# Altium footprint library EasyARM-i.MX283-EV V1.01.PcbLib: 48 footprints (part 2 of 3)
Each footprint in its own frame and in the unit in brackets; x right, y up, seen from the top. Pads: shape width x height; smd on the part's side, far side on the other; paste and mask are expansions set on the pad; w line width, h text height; cw(c..) or ccw(c..) is an arc to the next point about the centre after c.
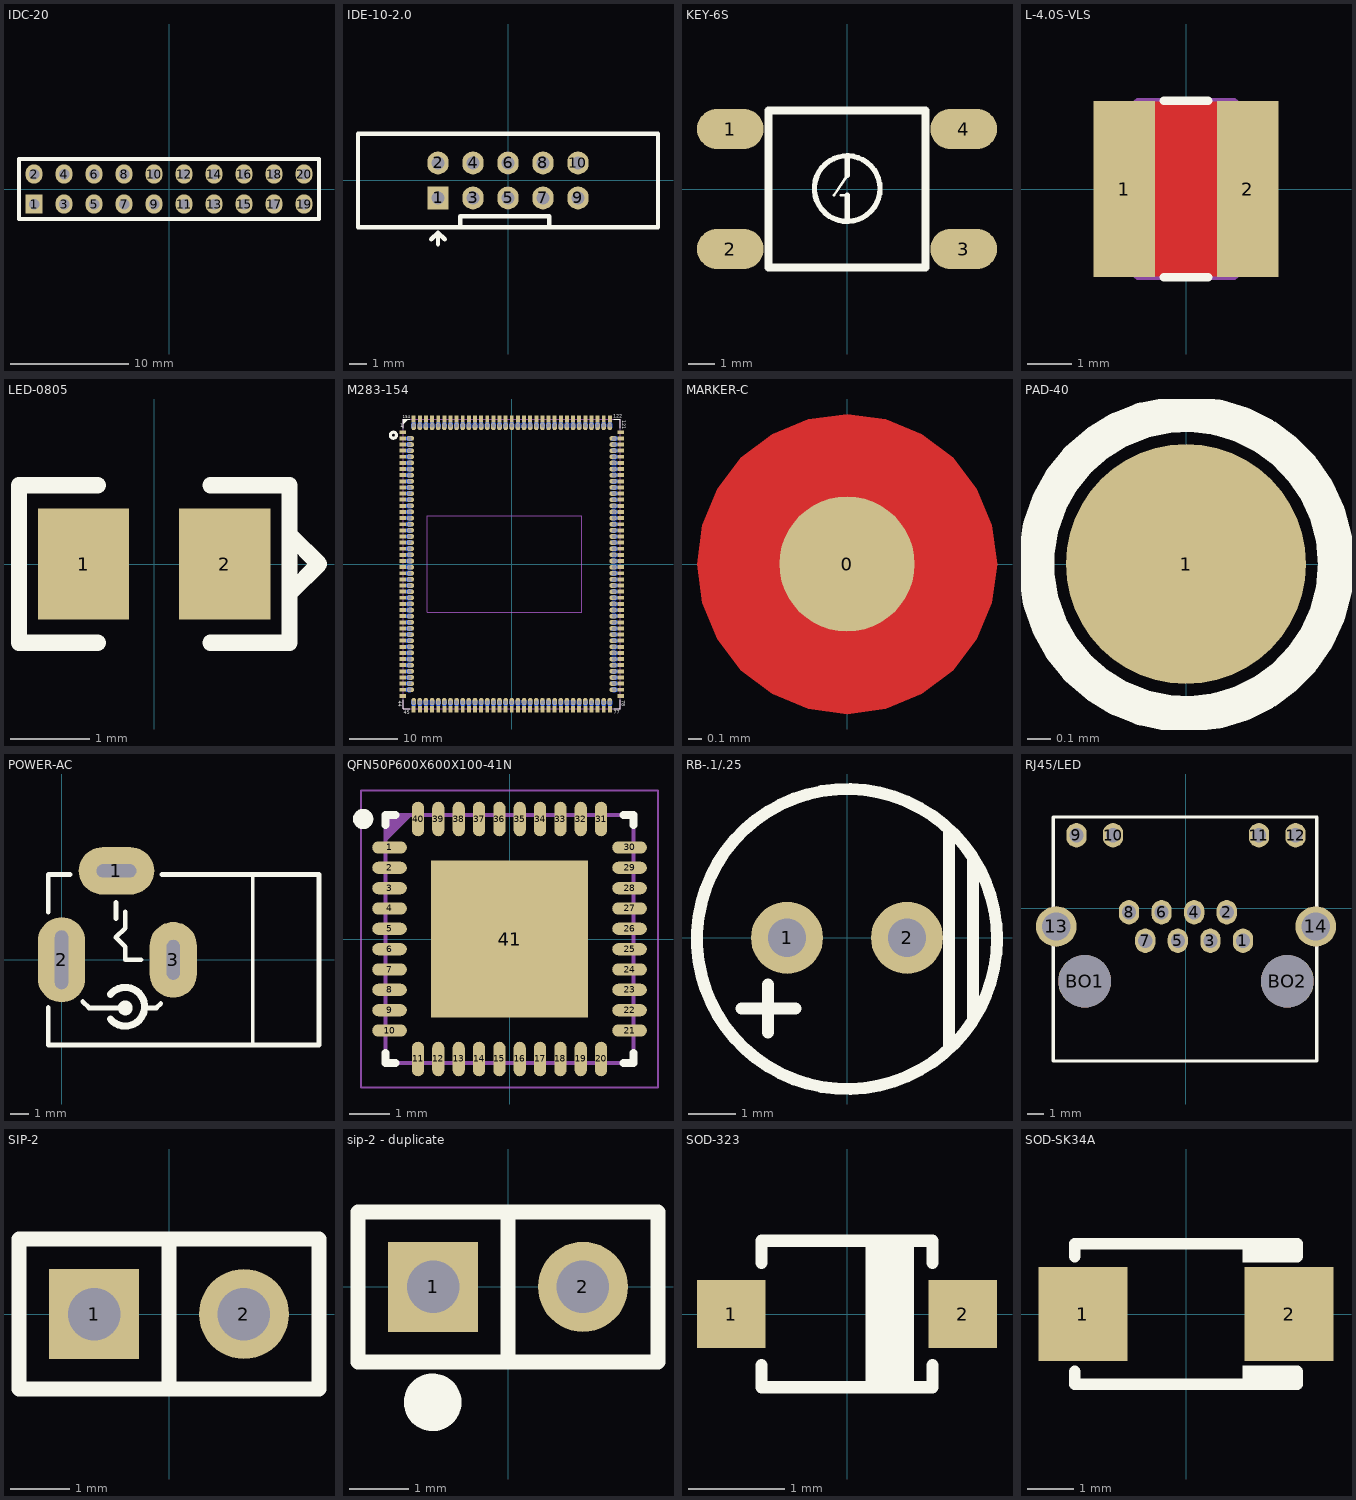
[diagram p1: the footprints below, top view; thin cyan lines are the x and y axes]

## IDC-20 [mil]
pads (20):
  rect 56x65 hole 35: 1(-450,-50)
  oval 56x65 hole 35: 2(-450,50) 3(-350,-50) 4(-350,50) 5(-250,-50) 6(-250,50) 7(-150,-50) 8(-150,50) 9(-50,-50) 10(-50,50) 11(50,-50) 12(50,50) 13(150,-50) 14(150,50) 15(250,-50) 16(250,50) 17(350,-50) 18(350,50) 19(450,-50) 20(450,50)
Top Overlay:
  lines w12: -500,-100 500,-100 500,100 -500,100 -500,-100
3D body: height 393.7, standoff 0, extent -469.24,30.04 -429.87,69.41
3D body: height 393.7, standoff 0, extent -369.24,30.04 -329.87,69.41
3D body: height 393.7, standoff 0, extent -269.24,30.04 -229.87,69.41
3D body: height 393.7, standoff 0, extent -169.24,30.04 -129.87,69.41
3D body: height 393.7, standoff 0, extent -69.24,30.04 -29.87,69.41
3D body: height 393.7, standoff 0, extent 30.76,30.04 70.13,69.41
3D body: height 393.7, standoff 0, extent 130.76,30.04 170.13,69.41
3D body: height 393.7, standoff 0, extent 230.76,30.04 270.13,69.41
3D body: height 393.7, standoff 0, extent 330.76,30.04 370.13,69.41
3D body: height 393.7, standoff 0, extent 430.76,30.04 470.13,69.41
3D body: height 393.7, standoff 0, extent 430.76,-69.96 470.13,-30.59
3D body: height 393.7, standoff 0, extent 330.76,-69.96 370.13,-30.59
3D body: height 393.7, standoff 0, extent 230.76,-69.96 270.13,-30.59
3D body: height 393.7, standoff 0, extent 130.76,-69.96 170.13,-30.59
3D body: height 393.7, standoff 0, extent 30.76,-69.96 70.13,-30.59
3D body: height 393.7, standoff 0, extent -69.24,-69.96 -29.87,-30.59
3D body: height 393.7, standoff 0, extent -169.24,-69.96 -129.87,-30.59
3D body: height 393.7, standoff 0, extent -269.24,-69.96 -229.87,-30.59
3D body: height 393.7, standoff 0, extent -369.24,-69.96 -329.87,-30.59
3D body: height 393.7, standoff 0, extent -469.24,-69.96 -429.87,-30.59
3D body: height 298.43, standoff -115.75, extent -400,-100 -300,0
3D body: height 298.43, standoff -115.75, extent -500,-100 -400,0
3D body: height 298.43, standoff -115.75, extent -400,0 -300,100
3D body: height 298.43, standoff -115.75, extent -500,0 -400,100
3D body: height 298.43, standoff -115.75, extent -200,-100 -100,0
3D body: height 298.43, standoff -115.75, extent -300,-100 -200,0
3D body: height 298.43, standoff -115.75, extent -200,0 -100,100
3D body: height 298.43, standoff -115.75, extent -300,0 -200,100
3D body: height 298.43, standoff -115.75, extent 0,-100 100,0
3D body: height 298.43, standoff -115.75, extent -100,-100 0,0
3D body: height 298.43, standoff -115.75, extent 0,0 100,100
3D body: height 298.43, standoff -115.75, extent -100,0 0,100
3D body: height 298.43, standoff -115.75, extent 200,-100 300,0
3D body: height 298.43, standoff -115.75, extent 100,-100 200,0
3D body: height 298.43, standoff -115.75, extent 200,0 300,100
3D body: height 298.43, standoff -115.75, extent 100,0 200,100
3D body: height 298.43, standoff -115.75, extent 400,-100 500,0
3D body: height 298.43, standoff -115.75, extent 300,-100 400,0
3D body: height 298.43, standoff -115.75, extent 400,0 500,100
3D body: height 298.43, standoff -115.75, extent 300,0 400,100

## IDE-10-2.0 [mil]
pads (10):
  rect 48x52 hole 30: 1(-157.48,-39.37)
  oval 48x52 hole 30: 2(-157.48,39.37) 3(-78.74,-39.37) 4(-78.74,39.37) 5(0,-39.37) 6(0,39.37) 7(78.74,-39.37) 8(78.74,39.37) 9(157.48,-39.37) 10(157.48,39.37)
Top Overlay:
  lines w10: -172.48,-132.37 -157.48,-117.37 ; -157.48,-143.37 -157.48,-117.37 ; -142.48,-132.37 -157.48,-117.37 ; -107.48,-105 -107.48,-80 92.52,-80 92.52,-105 ; -337.48,-105 -337.48,105 337.48,105 337.48,-105 -337.48,-105

## KEY-6S [mil]
pads (4):
  oval 100x60 smd: 1(-175,90) 2(-175,-90) 3(175,-90) 4(175,90)
Top Overlay:
  circle w8: c0.27,0.61 r49.21
  lines w4: -19.42,-9.24 0.27,20.29 ; -9.57,-9.24 0.27,-9.24
  lines w8: 0.27,-48.61 0.27,-9.23 ; 0.27,20.29 0.27,49.82
  lines w12: -118.11,-118.11 118.11,-118.11 118.11,118.11 -118.11,118.11 -118.11,-118.11
3D body: height 267.87, standoff 2.13, extent -200.64,-122.05 200.65,122.05

## L-4.0S-VLS [mm]
pads (2):
  rect 1.4x4 smd: 1(-1.4,0) 2(1.4,0)
Top Layer:
  pour cut-out: 0.737,-1.981 0.737,1.981 -0.762,1.981 -0.762,-1.981
Top Overlay:
  lines w0.203: -0.5,-2 0.5,-2 ; -0.5,2 0.5,2
Mechanical 15:
  lines w0.127: -2,-1.289 -2,1.289 ; -1.997,-1.292 -1.092,-2 1.092,-2 1.997,-1.292 ; -1.997,1.292 -1.092,2 1.092,2 1.997,1.292 ; 2,-1.292 2,1.289
3D body: height 1.2, standoff 0, extent -2,-2 2,2

## LED-0805 [mm]
pads (2):
  rect 1.15x1.4 smd: 1(-0.889,0) 2(0.889,0)
Top Overlay:
  lines w0.203: -0.711,-0.991 -1.702,-0.991 -1.702,0.991 -0.711,0.991 ; 0.711,-0.991 1.702,-0.991 1.702,0.991 0.711,0.991 ; 1.719,-0.356 2.075,0 1.719,0.356
3D body: height 1.1, standoff 0, extent -0.508,-0.508 0.508,0.508
3D body: height 0.64, standoff 0, extent -1,-0.635 1,0.635

## M283-154 [mm]
pads (604):
  rect 1.384x0.813 smd mask+0.051: 1(-22.57,27.305) 2(-22.57,26.035) 3(-22.57,24.765) 4(-22.57,23.495) 5(-22.57,22.225) 6(-22.57,20.955) 7(-22.57,19.685) 8(-22.57,18.415) 9(-22.57,17.145) 10(-22.57,15.875) 11(-22.57,14.605) 12(-22.57,13.335) 13(-22.57,12.065) 14(-22.57,10.795) 15(-22.57,9.525) 16(-22.57,8.255) 17(-22.57,6.985) 18(-22.57,5.715) 19(-22.57,4.445) 20(-22.57,3.175) 21(-22.57,1.905) 22(-22.57,0.635) 23(-22.57,-0.635) 24(-22.57,-1.905) 25(-22.57,-3.175) 26(-22.57,-4.445) 27(-22.57,-5.715) 28(-22.57,-6.985) 29(-22.57,-8.255) 30(-22.57,-9.525) 31(-22.57,-10.795) 32(-22.57,-12.065) 33(-22.57,-13.335) 34(-22.57,-14.605) 35(-22.57,-15.875) 36(-22.57,-17.145) 37(-22.57,-18.415) 38(-22.57,-19.685) 39(-22.57,-20.955) 40(-22.57,-22.225) 41(-22.57,-23.495) 42(-22.57,-24.765) 43(-22.57,-26.035) 44(-22.57,-27.305) 78(22.57,-27.305) 79(22.57,-26.035) 80(22.57,-24.765) 81(22.57,-23.495) 82(22.57,-22.225) 83(22.57,-20.955) 84(22.57,-19.685) 85(22.57,-18.415) 86(22.57,-17.145) 87(22.57,-15.875) 88(22.57,-14.605) 89(22.57,-13.335) 90(22.57,-12.065) 91(22.57,-10.795) 92(22.57,-9.525) 93(22.57,-8.255) 94(22.57,-6.985) 95(22.57,-5.715) 96(22.57,-4.445) 97(22.57,-3.175) 98(22.57,-1.905) 99(22.57,-0.635) 100(22.57,0.635) 101(22.57,1.905) 102(22.57,3.175) 103(22.57,4.445) 104(22.57,5.715) 105(22.57,6.985) 106(22.57,8.255) 107(22.57,9.525) 108(22.57,10.795) 109(22.57,12.065) 110(22.57,13.335) 111(22.57,14.605) 112(22.57,15.875) 113(22.57,17.145) 114(22.57,18.415) 115(22.57,19.685) 116(22.57,20.955) 117(22.57,22.225) 118(22.57,23.495) 119(22.57,24.765) 120(22.57,26.035) 121(22.57,27.305)
  oval 1x0.94 hole 0.8 mask+0.051: 2(-21.179,26.035) 3(-21.179,24.765) 4(-21.179,23.495) 5(-21.179,22.225) 6(-21.179,20.955) 7(-21.179,19.685) 8(-21.179,18.415) 9(-21.179,17.145) 10(-21.179,15.875) 11(-21.179,14.605) 12(-21.179,13.335) 13(-21.179,12.065) 14(-21.179,10.795) 15(-21.179,9.525) 16(-21.179,8.255) 17(-21.179,6.985) 18(-21.179,5.715) 19(-21.179,4.445) 20(-21.179,3.175) 21(-21.179,1.905) 22(-21.179,0.635) 23(-21.179,-0.635) 24(-21.179,-1.905) 25(-21.179,-3.175) 26(-21.179,-4.445) 27(-21.179,-5.715) 28(-21.179,-6.985) 29(-21.179,-8.255) 30(-21.179,-9.525) 31(-21.179,-10.795) 32(-21.179,-12.065) 33(-21.179,-13.335) 34(-21.179,-14.605) 35(-21.179,-15.875) 36(-21.179,-17.145) 37(-21.179,-18.415) 38(-21.179,-19.685) 39(-21.179,-20.955) 40(-21.179,-22.225) 41(-21.179,-23.495) 42(-21.179,-24.765) 43(-21.179,-26.035) 79(21.179,-26.035) 80(21.179,-24.765) 81(21.179,-23.495) 82(21.179,-22.225) 83(21.179,-20.955) 84(21.179,-19.685) 85(21.179,-18.415) 86(21.179,-17.145) 87(21.179,-15.875) 88(21.179,-14.605) 89(21.179,-13.335) 90(21.179,-12.065) 91(21.179,-10.795) 92(21.179,-9.525) 93(21.179,-8.255) 94(21.179,-6.985) 95(21.179,-5.715) 96(21.179,-4.445) 97(21.179,-3.175) 98(21.179,-1.905) 99(21.179,-0.635) 100(21.179,0.635) 101(21.179,1.905) 102(21.179,3.175) 103(21.179,4.445) 104(21.179,5.715) 105(21.179,6.985) 106(21.179,8.255) 107(21.179,9.525) 108(21.179,10.795) 109(21.179,12.065) 110(21.179,13.335) 111(21.179,14.605) 112(21.179,15.875) 113(21.179,17.145) 114(21.179,18.415) 115(21.179,19.685) 116(21.179,20.955) 117(21.179,22.225) 118(21.179,23.495) 119(21.179,24.765) 120(21.179,26.035)
  oval 1.5x0.95 smd far side mask+0.051: 2(-21.179,26.035) 3(-21.179,24.765) 4(-21.179,23.495) 5(-21.179,22.225) 6(-21.179,20.955) 7(-21.179,19.685) 8(-21.179,18.415) 9(-21.179,17.145) 10(-21.179,15.875) 11(-21.179,14.605) 12(-21.179,13.335) 13(-21.179,12.065) 14(-21.179,10.795) 15(-21.179,9.525) 16(-21.179,8.255) 17(-21.179,6.985) 18(-21.179,5.715) 19(-21.179,4.445) 20(-21.179,3.175) 21(-21.179,1.905) 22(-21.179,0.635) 23(-21.179,-0.635) 24(-21.179,-1.905) 25(-21.179,-3.175) 26(-21.179,-4.445) 27(-21.179,-5.715) 28(-21.179,-6.985) 29(-21.179,-8.255) 30(-21.179,-9.525) 31(-21.179,-10.795) 32(-21.179,-12.065) 33(-21.179,-13.335) 34(-21.179,-14.605) 35(-21.179,-15.875) 36(-21.179,-17.145) 37(-21.179,-18.415) 38(-21.179,-19.685) 39(-21.179,-20.955) 40(-21.179,-22.225) 41(-21.179,-23.495) 42(-21.179,-24.765) 43(-21.179,-26.035) 79(21.179,-26.035) 80(21.179,-24.765) 81(21.179,-23.495) 82(21.179,-22.225) 83(21.179,-20.955) 84(21.179,-19.685) 85(21.179,-18.415) 86(21.179,-17.145) 87(21.179,-15.875) 88(21.179,-14.605) 89(21.179,-13.335) 90(21.179,-12.065) 91(21.179,-10.795) 92(21.179,-9.525) 93(21.179,-8.255) 94(21.179,-6.985) 95(21.179,-5.715) 96(21.179,-4.445) 97(21.179,-3.175) 98(21.179,-1.905) 99(21.179,-0.635) 100(21.179,0.635) 101(21.179,1.905) 102(21.179,3.175) 103(21.179,4.445) 104(21.179,5.715) 105(21.179,6.985) 106(21.179,8.255) 107(21.179,9.525) 108(21.179,10.795) 109(21.179,12.065) 110(21.179,13.335) 111(21.179,14.605) 112(21.179,15.875) 113(21.179,17.145) 114(21.179,18.415) 115(21.179,19.685) 116(21.179,20.955) 117(21.179,22.225) 118(21.179,23.495) 119(21.179,24.765) 120(21.179,26.035)
  oval 1.5x0.95 smd mask+0.051: 2(-20.976,26.035) 3(-20.976,24.765) 4(-20.976,23.495) 5(-20.976,22.225) 6(-20.976,20.955) 7(-20.976,19.685) 8(-20.976,18.415) 9(-20.976,17.145) 10(-20.976,15.875) 11(-20.976,14.605) 12(-20.976,13.335) 13(-20.976,12.065) 14(-20.976,10.795) 15(-20.976,9.525) 16(-20.976,8.255) 17(-20.976,6.985) 18(-20.976,5.715) 19(-20.976,4.445) 20(-20.976,3.175) 21(-20.976,1.905) 22(-20.976,0.635) 23(-20.976,-0.635) 24(-20.976,-1.905) 25(-20.976,-3.175) 26(-20.976,-4.445) 27(-20.976,-5.715) 28(-20.976,-6.985) 29(-20.976,-8.255) 30(-20.976,-9.525) 31(-20.976,-10.795) 32(-20.976,-12.065) 33(-20.976,-13.335) 34(-20.976,-14.605) 35(-20.976,-15.875) 36(-20.976,-17.145) 37(-20.976,-18.415) 38(-20.976,-19.685) 39(-20.976,-20.955) 40(-20.976,-22.225) 41(-20.976,-23.495) 42(-20.976,-24.765) 43(-20.976,-26.035) 79(20.976,-26.035) 80(20.976,-24.765) 81(20.976,-23.495) 82(20.976,-22.225) 83(20.976,-20.955) 84(20.976,-19.685) 85(20.976,-18.415) 86(20.976,-17.145) 87(20.976,-15.875) 88(20.976,-14.605) 89(20.976,-13.335) 90(20.976,-12.065) 91(20.976,-10.795) 92(20.976,-9.525) 93(20.976,-8.255) 94(20.976,-6.985) 95(20.976,-5.715) 96(20.976,-4.445) 97(20.976,-3.175) 98(20.976,-1.905) 99(20.976,-0.635) 100(20.976,0.635) 101(20.976,1.905) 102(20.976,3.175) 103(20.976,4.445) 104(20.976,5.715) 105(20.976,6.985) 106(20.976,8.255) 107(20.976,9.525) 108(20.976,10.795) 109(20.976,12.065) 110(20.976,13.335) 111(20.976,14.605) 112(20.976,15.875) 113(20.976,17.145) 114(20.976,18.415) 115(20.976,19.685) 116(20.976,20.955) 117(20.976,22.225) 118(20.976,23.495) 119(20.976,24.765) 120(20.976,26.035)
  rect 0.813x1.384 smd mask+0.051: 45(-20.32,-30.07) 46(-19.05,-30.07) 47(-17.78,-30.07) 48(-16.51,-30.07) 49(-15.24,-30.07) 50(-13.97,-30.07) 51(-12.7,-30.07) 52(-11.43,-30.07) 53(-10.16,-30.07) 54(-8.89,-30.07) 55(-7.62,-30.07) 56(-6.35,-30.07) 57(-5.08,-30.07) 58(-3.81,-30.07) 59(-2.54,-30.07) 60(-1.27,-30.07) 61(0,-30.07) 62(1.27,-30.07) 63(2.54,-30.07) 64(3.81,-30.07) 65(5.08,-30.07) 66(6.35,-30.07) 67(7.62,-30.07) 68(8.89,-30.07) 69(10.16,-30.07) 70(11.43,-30.07) 71(12.7,-30.07) 72(13.97,-30.07) 73(15.24,-30.07) 74(16.51,-30.07) 75(17.78,-30.07) 76(19.05,-30.07) 77(20.32,-30.07) 122(20.32,30.07) 123(19.05,30.07) 124(17.78,30.07) 125(16.51,30.07) 126(15.24,30.07) 127(13.97,30.07) 128(12.7,30.07) 129(11.43,30.07) 130(10.16,30.07) 131(8.89,30.07) 132(7.62,30.07) 133(6.35,30.07) 134(5.08,30.07) 135(3.81,30.07) 136(2.54,30.07) 137(1.27,30.07) 138(0,30.07) 139(-1.27,30.07) 140(-2.54,30.07) 141(-3.81,30.07) 142(-5.08,30.07) 143(-6.35,30.07) 144(-7.62,30.07) 145(-8.89,30.07) 146(-10.16,30.07) 147(-11.43,30.07) 148(-12.7,30.07) 149(-13.97,30.07) 150(-15.24,30.07) 151(-16.51,30.07) 152(-17.78,30.07) 153(-19.05,30.07) 154(-20.32,30.07)
  oval 0.95x1 hole 0.8 mask+0.051: 45(-20.32,-28.679)
  oval 0.95x1.5 smd far side mask+0.051: 45(-20.32,-28.679) 46(-19.05,-28.679) 47(-17.78,-28.679) 48(-16.51,-28.679) 49(-15.24,-28.679) 50(-13.97,-28.679) 51(-12.7,-28.679) 52(-11.43,-28.679) 53(-10.16,-28.679) 54(-8.89,-28.679) 55(-7.62,-28.679) 56(-6.35,-28.679) 57(-5.08,-28.679) 58(-3.81,-28.679) 59(-2.54,-28.679) 60(-1.27,-28.679) 61(0,-28.679) 62(1.27,-28.679) 63(2.54,-28.679) 64(3.81,-28.679) 65(5.08,-28.679) 66(6.35,-28.679) 67(7.62,-28.679) 68(8.89,-28.679) 69(10.16,-28.679) 70(11.43,-28.679) 71(12.7,-28.679) 72(13.97,-28.679) 73(15.24,-28.679) 74(16.51,-28.679) 75(17.78,-28.679) 76(19.05,-28.679) 77(20.32,-28.679) 122(20.32,28.679) 123(19.05,28.679) 124(17.78,28.679) 125(16.51,28.679) 126(15.24,28.679) 127(13.97,28.679) 128(12.7,28.679) 129(11.43,28.679) 130(10.16,28.679) 131(8.89,28.679) 132(7.62,28.679) 133(6.35,28.679) 134(5.08,28.679) 135(3.81,28.679) 136(2.54,28.679) 137(1.27,28.679) 138(0,28.679) 139(-1.27,28.679) 140(-2.54,28.679) 141(-3.81,28.679) 142(-5.08,28.679) 143(-6.35,28.679) 144(-7.62,28.679) 145(-8.89,28.679) 146(-10.16,28.679) 147(-11.43,28.679) 148(-12.7,28.679) 149(-13.97,28.679) 150(-15.24,28.679) 151(-16.51,28.679) 152(-17.78,28.679) 153(-19.05,28.679) 154(-20.32,28.679)
  oval 0.95x1.5 smd mask+0.051: 45(-20.32,-28.476) 46(-19.05,-28.476) 47(-17.78,-28.476) 48(-16.51,-28.476) 49(-15.24,-28.476) 50(-13.97,-28.476) 51(-12.7,-28.476) 52(-11.43,-28.476) 53(-10.16,-28.476) 54(-8.89,-28.476) 55(-7.62,-28.476) 56(-6.35,-28.476) 57(-5.08,-28.476) 58(-3.81,-28.476) 59(-2.54,-28.476) 60(-1.27,-28.476) 61(0,-28.476) 62(1.27,-28.476) 63(2.54,-28.476) 64(3.81,-28.476) 65(5.08,-28.476) 66(6.35,-28.476) 67(7.62,-28.476) 68(8.89,-28.476) 69(10.16,-28.476) 70(11.43,-28.476) 71(12.7,-28.476) 72(13.97,-28.476) 73(15.24,-28.476) 74(16.51,-28.476) 75(17.78,-28.476) 76(19.05,-28.476) 77(20.32,-28.476) 122(20.32,28.476) 123(19.05,28.476) 124(17.78,28.476) 125(16.51,28.476) 126(15.24,28.476) 127(13.97,28.476) 128(12.7,28.476) 129(11.43,28.476) 130(10.16,28.476) 131(8.89,28.476) 132(7.62,28.476) 133(6.35,28.476) 134(5.08,28.476) 135(3.81,28.476) 136(2.54,28.476) 137(1.27,28.476) 138(0,28.476) 139(-1.27,28.476) 140(-2.54,28.476) 141(-3.81,28.476) 142(-5.08,28.476) 143(-6.35,28.476) 144(-7.62,28.476) 145(-8.89,28.476) 146(-10.16,28.476) 147(-11.43,28.476) 148(-12.7,28.476) 149(-13.97,28.476) 150(-15.24,28.476) 151(-16.51,28.476) 152(-17.78,28.476) 153(-19.05,28.476) 154(-20.32,28.476)
  oval 0.94x1 hole 0.8 mask+0.051: 46(-19.05,-28.679) 47(-17.78,-28.679) 48(-16.51,-28.679) 49(-15.24,-28.679) 50(-13.97,-28.679) 51(-12.7,-28.679) 52(-11.43,-28.679) 53(-10.16,-28.679) 54(-8.89,-28.679) 55(-7.62,-28.679) 56(-6.35,-28.679) 57(-5.08,-28.679) 58(-3.81,-28.679) 59(-2.54,-28.679) 60(-1.27,-28.679) 61(0,-28.679) 62(1.27,-28.679) 63(2.54,-28.679) 64(3.81,-28.679) 65(5.08,-28.679) 66(6.35,-28.679) 67(7.62,-28.679) 68(8.89,-28.679) 69(10.16,-28.679) 70(11.43,-28.679) 71(12.7,-28.679) 72(13.97,-28.679) 73(15.24,-28.679) 74(16.51,-28.679) 75(17.78,-28.679) 76(19.05,-28.679) 77(20.32,-28.679) 122(20.32,28.679) 123(19.05,28.679) 124(17.78,28.679) 125(16.51,28.679) 126(15.24,28.679) 127(13.97,28.679) 128(12.7,28.679) 129(11.43,28.679) 130(10.16,28.679) 131(8.89,28.679) 132(7.62,28.679) 133(6.35,28.679) 134(5.08,28.679) 135(3.81,28.679) 136(2.54,28.679) 137(1.27,28.679) 138(0,28.679) 139(-1.27,28.679) 140(-2.54,28.679) 141(-3.81,28.679) 142(-5.08,28.679) 143(-6.35,28.679) 144(-7.62,28.679) 145(-8.89,28.679) 146(-10.16,28.679) 147(-11.43,28.679) 148(-12.7,28.679) 149(-13.97,28.679) 150(-15.24,28.679) 151(-16.51,28.679) 152(-17.78,28.679) 153(-19.05,28.679) 154(-20.32,28.679)
Top Overlay:
  circle w0.635: c-24.532,26.695 r0.635
  region: -22.5,30 -21.488,30 -22.5,28.988
  lines w0.127: -22.5,-28.092 -22.5,-30 -21.107,-30 ; -22.5,28.092 -22.5,30 -21.107,30 ; 21.107,-30 22.5,-30 22.5,-28.092 ; 21.107,30 22.5,30 22.5,28.092
  text "154" at -22.581,30.251 h0.64
  text "1" at -23.089,28.321 h0.76
  text "122" at 21.006,30.328 h0.76
  text "121" at 22.84,29.744 h0.76
  text "78" at 22.824,-28.246 h0.76
  text "77" at 21.082,-30.988 h0.76
  text "45" at -22.428,-31.064 h0.76
  text "44" at -23.489,-28.292 h0.76
Mechanical 1:
  lines w0.127: -17.5,-10 14.5,-10 14.5,10 -17.5,10 -17.5,-10
Mechanical 2:
  lines w0.127: -17.5,-10 -17.5,10 14.5,10 14.5,-10 -17.5,-10
Mechanical 15:
  lines w0.127: -22.5,-30 -22.5,30 22.5,30 22.5,-30 -22.5,-30

## MARKER-C [mm]
pads (1):
  round 1 smd paste-1.016 mask+0.5: 0(0,0)
Top Layer:
  pour cut-out: -1.109,0 -1.072,-0.287 -0.961,-0.555 -0.785,-0.785 -0.555,-0.961 -0.287,-1.072 0,-1.109 0.287,-1.072 0.555,-0.961 0.785,-0.785 0.961,-0.555 1.072,-0.287 1.109,0 1.072,0.287 0.961,0.555 0.785,0.785 0.555,0.961 0.287,1.072 0,1.109 -0.287,1.072 -0.555,0.961 -0.785,0.785 -0.961,0.555 -1.072,0.287

## PAD-40 [mil]
pads (1):
  round 40 smd paste-43.31: 1(0,0)
Top Overlay:
  circle w6: c0,0 r25

## POWER-AC [mm]
pads (3):
  oval 4x2.5 hole 0.7 slot 2.1 at 0 deg: 1(2.9,4.7)
  oval 2.5x4.5 hole 0.7 slot 3.1 at 90 deg: 2(0,0)
  oval 2.5x4 hole 0.7 slot 2.1 at 90 deg: 3(5.9,0)
Top Overlay:
  circle w0.381: c3.36,-2.54 r0.203
  lines w0.203: 10.1,-4.5 10.1,4.5
  lines w0.254: -0.7,-2.515 -0.7,-4.5 13.6,-4.5 13.6,4.5 5.287,4.5 ; -0.7,2.515 -0.7,4.5 0.457,4.5 ; 1.121,-2.206 1.455,-2.54 3.36,-2.54 ; 2.87,2.184 2.87,3.023 ; 3.36,2.54 3.36,1.676 2.865,1.181 3.36,0.686 3.36,0 4.191,0 ; 4.376,-2.54 5.011,-2.54 5.236,-2.315
  lines w0.381: 2.581,-3.134 ccw(c3.363,-2.478) 2.581,-1.822
Mechanical 1:
  lines w0.203: -0.35,-1.55 -0.35,1.55 0.35,1.55 0.35,-1.55 -0.35,-1.55 ; 1.85,4.35 1.85,5.05 3.95,5.05 3.95,4.35 1.85,4.35 ; 5.55,-1.05 6.25,-1.05 6.25,1.05 5.55,1.05 5.55,-1.05
3D body: height 11.02, standoff -3.48, extent -0.281,-4.496 13.545,5.01

## QFN50P600X600X100-41N [mm]
pads (41):
  oval 0.85x0.3 smd: 1(-2.95,2.25) 2(-2.95,1.75) 3(-2.95,1.25) 4(-2.95,0.75) 5(-2.95,0.25) 6(-2.95,-0.25) 7(-2.95,-0.75) 8(-2.95,-1.25) 9(-2.95,-1.75) 10(-2.95,-2.25) 21(2.95,-2.25) 22(2.95,-1.75) 23(2.95,-1.25) 24(2.95,-0.75) 25(2.95,-0.25) 26(2.95,0.25) 27(2.95,0.75) 28(2.95,1.25) 29(2.95,1.75) 30(2.95,2.25)
  oval 0.3x0.85 smd: 11(-2.25,-2.95) 12(-1.75,-2.95) 13(-1.25,-2.95) 14(-0.75,-2.95) 15(-0.25,-2.95) 16(0.25,-2.95) 17(0.75,-2.95) 18(1.25,-2.95) 19(1.75,-2.95) 20(2.25,-2.95) 31(2.25,2.95) 32(1.75,2.95) 33(1.25,2.95) 34(0.75,2.95) 35(0.25,2.95) 36(-0.25,2.95) 37(-0.75,2.95) 38(-1.25,2.95) 39(-1.75,2.95) 40(-2.25,2.95)
  rect 3.85x3.85 smd: 41(0,0)
Top Overlay:
  circle w0.25: c-3.6,2.95 r0.125
  lines w0.2: -3.05,-2.8 -3.05,-3.05 -2.8,-3.05 ; -3.05,2.8 -3.05,3.05 -2.8,3.05 ; 2.8,-3.05 3.05,-3.05 3.05,-2.8 ; 2.8,3.05 3.05,3.05 3.05,2.8
Top Paste:
  region: -1.155,1.155 1.155,1.155 1.155,-1.155 -1.155,-1.155
Mechanical 15:
  lines w0.1: -3.05,2.45 -2.45,3.05 ; -3.05,2.55 -2.55,3.05 ; -3.05,2.65 -2.65,3.05 ; -3.05,2.75 -2.75,3.05 ; -3.05,2.85 -2.85,3.05 ; -3.05,2.95 -2.95,3.05 ; -3.05,-3.05 3.05,-3.05 3.05,3.05 -3.05,3.05 -3.05,-3.05
  text "1" at -0.164,-0.45 h0.75
Mechanical 16:
  lines w0.001: -3.05,-3.05 3.05,-3.05 3.05,3.05 -3.05,3.05 -3.05,-3.05
  lines w0.05: -0.5,0 0.5,0 ; 0,-0.5 0,0.5 ; -3.65,-3.65 3.65,-3.65 3.65,3.65 -3.65,3.65 -3.65,-3.65

## RB-.1/.25 [mil]
pads (2):
  round 60 hole 32: 1(-50,0) 2(50,0)
Top Overlay:
  circle w10: c0,-1 r125
  lines w10: -88,-59 -43,-59 ; -66,-79 -66,-39 ; 85,-91 85,89 ; 105,-66 105,64
3D body: height 452.76, standoff -728.35, extent -124.02,-124.02 124.02,124.02

## RJ45/LED [mil]
pads (16):
  oval 50x60 hole 35: 1(140.55,-79.92) 2(100.39,-9.84) 3(60.24,-79.92) 4(20.08,-9.84) 5(-20.08,-79.92) 6(-60.24,-9.84) 7(-100.39,-79.92) 8(-140.55,-9.84) 9(-270.08,179.92) 10(-179.92,179.92) 11(179.92,179.92) 12(270.08,179.92)
  round 100 hole 70: 13(-319.88,-44.88) 14(319.88,-44.88)
  round 130 hole 130: BO1(-250,-179.92) BO2(250,-179.92)
Top Overlay:
  lines w7.99: -327.42,-376.69 -327.42,225.16 ; 322.19,-376.69 322.19,225.08
  lines w8: -327.42,-376.69 322.19,-376.69 ; -327.42,225.16 322,225.16 cw(c322,224.89) 322.19,225.08

## SIP-2 [mil]
pads (2):
  rect 60x60 hole 35: 1(-50,0)
  round 60 hole 35: 2(50,0)
Top Overlay:
  lines w10: 0,-50 0,50 ; -100,-50 100,-50 100,50 -100,50 -100,-50
3D body: height 298.43, standoff -115.75, extent 0,-50 100,50
3D body: height 298.43, standoff -115.75, extent -100,-50 0,50

## sip-2 - duplicate [mil]
pads (2):
  rect 60x60 hole 35: 1(-50,0)
  round 60 hole 35: 2(50,0)
Top Overlay:
  circle w20: c-50.22,-77 r9.22
  lines w10: 0,-50 0,50 ; -100,-50 -100,50 100,50 100,-50 -100,-50
3D body: height 298.43, standoff -115.75, extent -100,-50 0,50
3D body: height 298.43, standoff -115.75, extent 0,-50 100,50

## SOD-323 [mil]
pads (2):
  rect 28x28 smd: 1(-47.5,0) 2(47.5,0)
Top Overlay:
  lines w5: -35,-21 -35,-30 35,-30 35,-21 ; -35,21 -35,30 35,30 35,21 ; 10,-30 10,30 ; 15,-30 15,30 ; 20,-30 20,30 ; 25,-30 25,30
3D body: height 39.37, standoff 0, extent -51,-26 51.36,25.18

## SOD-SK34A [mil]
pads (2):
  rect 76x80 smd: 1(-88,0) 2(88,0)
Top Overlay:
  rectangle: 48,44 95,60
  rectangle: 48,-60 95,-44
  lines w10: -95,-49 -95,-60 95,-60 95,-49 ; -95,49 -95,60 95,60 95,49
3D body: height 94.49, standoff 0, extent -91.52,-53.55 89.58,52.75